# Altium footprint library 16128981.PcbLib: 1 footprints
Each footprint in its own frame and in the unit in brackets; x right, y up, seen from the top. Pads: shape width x height; smd on the part's side, far side on the other; paste and mask are expansions set on the pad; w line width, h text height; cw(c..) or ccw(c..) is an arc to the next point about the centre after c.
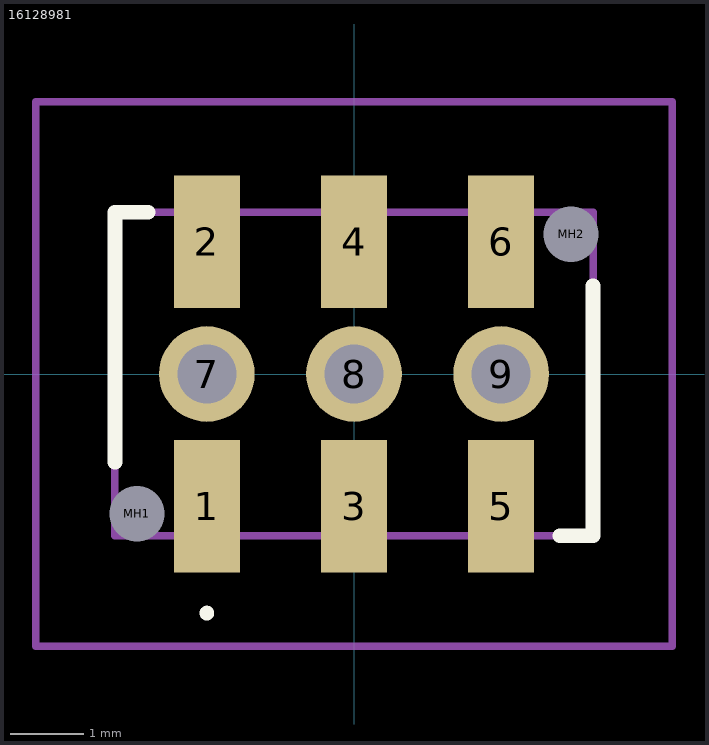
[diagram p0: the footprint, top view; thin cyan lines are the x and y axes]

## 16128981 [mm]
pads (11):
  rect 0.9x1.8 smd: 1(-2,-1.8) 2(-2,1.8) 3(0,-1.8) 4(0,1.8) 5(2,-1.8) 6(2,1.8)
  round 1.3 hole 0.8: 7(-2,0) 8(0,0) 9(2,0)
  round 0.375 hole 0.75 unplated: MH1(-2.95,-1.9) MH2(2.95,1.9)
Top Overlay:
  lines w0.1: -2,-3.3 -2,-3.3 ; -2,-3.3 ccw(c-2,-3.25) -2,-3.2 ; -2,-3.3 cw(c-2,-3.25) -2,-3.2 ; -2,-3.2 -2,-3.2
  lines w0.2: -3.25,-1.2 -3.25,2.2 -2.8,2.2 ; 2.8,-2.2 3.25,-2.2 3.25,1.2
Mechanical 15:
  lines w0.1: -3.25,-2.2 3.25,-2.2 3.25,2.2 -3.25,2.2 -3.25,-2.2
Mechanical 20:
  lines w0.1: -4.325,-3.7 4.325,-3.7 4.325,3.7 -4.325,3.7 -4.325,-3.7